# Altium schematic symbol library oscillator.SchLib: 10 symbols
Pins are listed as number, name and electrical type; pins without a type are passive.

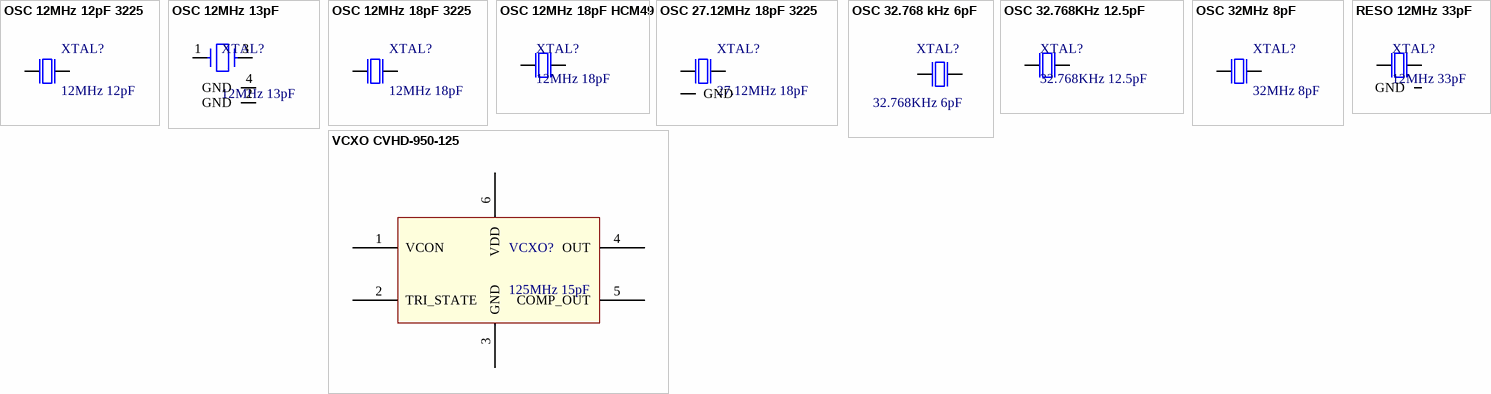
[diagram p0: symbols OSC 12MHz 12pF 3225 to VCXO CVHD-950-125]

## OSC 12MHz 12pF 3225
designator XTAL?, comment 12MHz 12pF
Quarz 12MHz 12pF ±30ppm 3225; Manufacturer: TXC Corporation; Manufacturer Part Number: 7V-12.000MAAE-T; Value: 12MHz 12pF; Created by: Nils Minor
footprint EPSON TSX-3225 (Crystal, 4-Leads, Body 2.50x3.20mm, Pitch 2.20mm, IPC Medium Density)
pins: 1 inp, 2 GND hidden to GND, 3 out, 4 GND hidden to GND

## OSC 12MHz 13pF
designator XTAL?, comment 12MHz 13pF
Quarz 12MHz 13pF ±30ppm 5032; Manufacturer: CTS; Manufacturer Part Number: 405C35B12M00000; Created by: Nils Minor; Value: 12MHz 13pF
footprint CTS 405 (Footprint not found)
pins: 1, 2 GND, 3, 4 GND

## OSC 12MHz 18pF 3225
designator XTAL?, comment 12MHz 18pF
Quarz 12MHz 18pF ±30ppm 3225; Manufacturer: TXC Corporation; Manufacturer Part Number: 7M-12.000MAAJ-T; Value: 12MHz 18pF; Created by: Nils Minor
footprint EPSON TSX-3225 (Crystal, 4-Leads, Body 2.50x3.20mm, Pitch 2.20mm, IPC Medium Density)
pins: 1 inp, 2 GND hidden to GND, 3 out, 4 GND hidden to GND

## OSC 12MHz 18pF HCM49
designator XTAL?, comment 12MHz 18pF
Quarz 12MHZ 18pF ±50ppm HCM49; Manufacturer: Citizen; Manufacturer Part Number: HCM49-12.000MABJ-UT; Created by: Nils Minor; Value: 12MHz 18pF
footprint HCM49
pins: 1 inp, 2 out

## OSC 27.12MHz 18pF 3225
designator XTAL?, comment 27.12MHz 18pF
Quarz 27.12MHz 18pF ±30ppm 3225; Manufacturer: TXC Corporation; Manufacturer Part Number: 7M-27.120MAAJ-T; Value: 27.12MHz 18pF; Created by: Nils Minor
footprint EPSON TSX-3225 (Crystal, 4-Leads, Body 2.50x3.20mm, Pitch 2.20mm, IPC Medium Density)
pins: 1 inp, 2 GND hidden to GND, 2 GND, 3 out, 4 GND hidden to GND, 4 GND

## OSC 32.768 kHz 6pF
designator XTAL?, comment 32.768KHz 6pF
Quarz 32.768KHz 6pF 20ppm ESR 60 kOhm; Manufacturer: Abracon; Manufacturer Part Number: ABS07-32.768KHZ-T; Created by: Nils Minor; Value: 32.768kHz 6pF
footprint XTAL_3215
pins: 1 inp, 2 out

## OSC 32.768KHz 12.5pF
designator XTAL?, comment 32.768KHz 12.5pF
Quarz 32.768kHz 12.5pF ±20ppm ABS25; Manufacturer: Abracon; Manufacturer Part Number: ABS25-32.000KHZ-T; Created by: Nils Minor; Value: 32.768kHz 12.5pF
footprint ABS25-32.768KHZ-T
pins: 1 inp, 4 out

## OSC 32MHz 8pF
designator XTAL?, comment 32MHz 8pF
Quarz 32MHZ 8pF ±10ppm 2016; Manufacturer: Epson Toyocom; Manufacturer Part Number: Q22FA12800025; Value: 32MHz 8pF; Created by: Nils Minor
footprint KYOCERA CX2016DB (Crystal, 4-Leads, Body 1.60x2.00mm, Pitch 1.40mm, IPC Medium Density)
pins: 1 inp, 2 GND hidden to GND, 3 out, 4 GND hidden to GND

## RESO 12MHz 33pF
designator XTAL?, comment 12MHz 33pF
Resonator 12MHz 33pF 5% 3011; Manufacturer: Murata; Manufacturer Part Number: CSTCE12M0G55Z-R0; Created by: Nils Minor; Value: 12MHz 33pF
footprint Murata CSTCE 3011 (CSTCE12M0G55Z-R0)
pins: 1 inp, 2 GND, 3 out

## VCXO CVHD-950-125
designator VCXO?, comment 125MHz 15pF
VCXO-Oszillator 125MHz LOW PHASE 15pF; Manufacturer: Crystek; Manufacturer Part Number: CVHD-950-125.000; Created by: Nils Minor; Value: 125MHz 15pF
footprint YSML555W358H240
pins: 1 VCON, 2 TRI_STATE, 3 GND, 4 OUT, 5 COMP_OUT, 6 VDD